# Altium schematic symbol library Connectors_Misc.SchLib: 48 symbols (part 2 of 2)

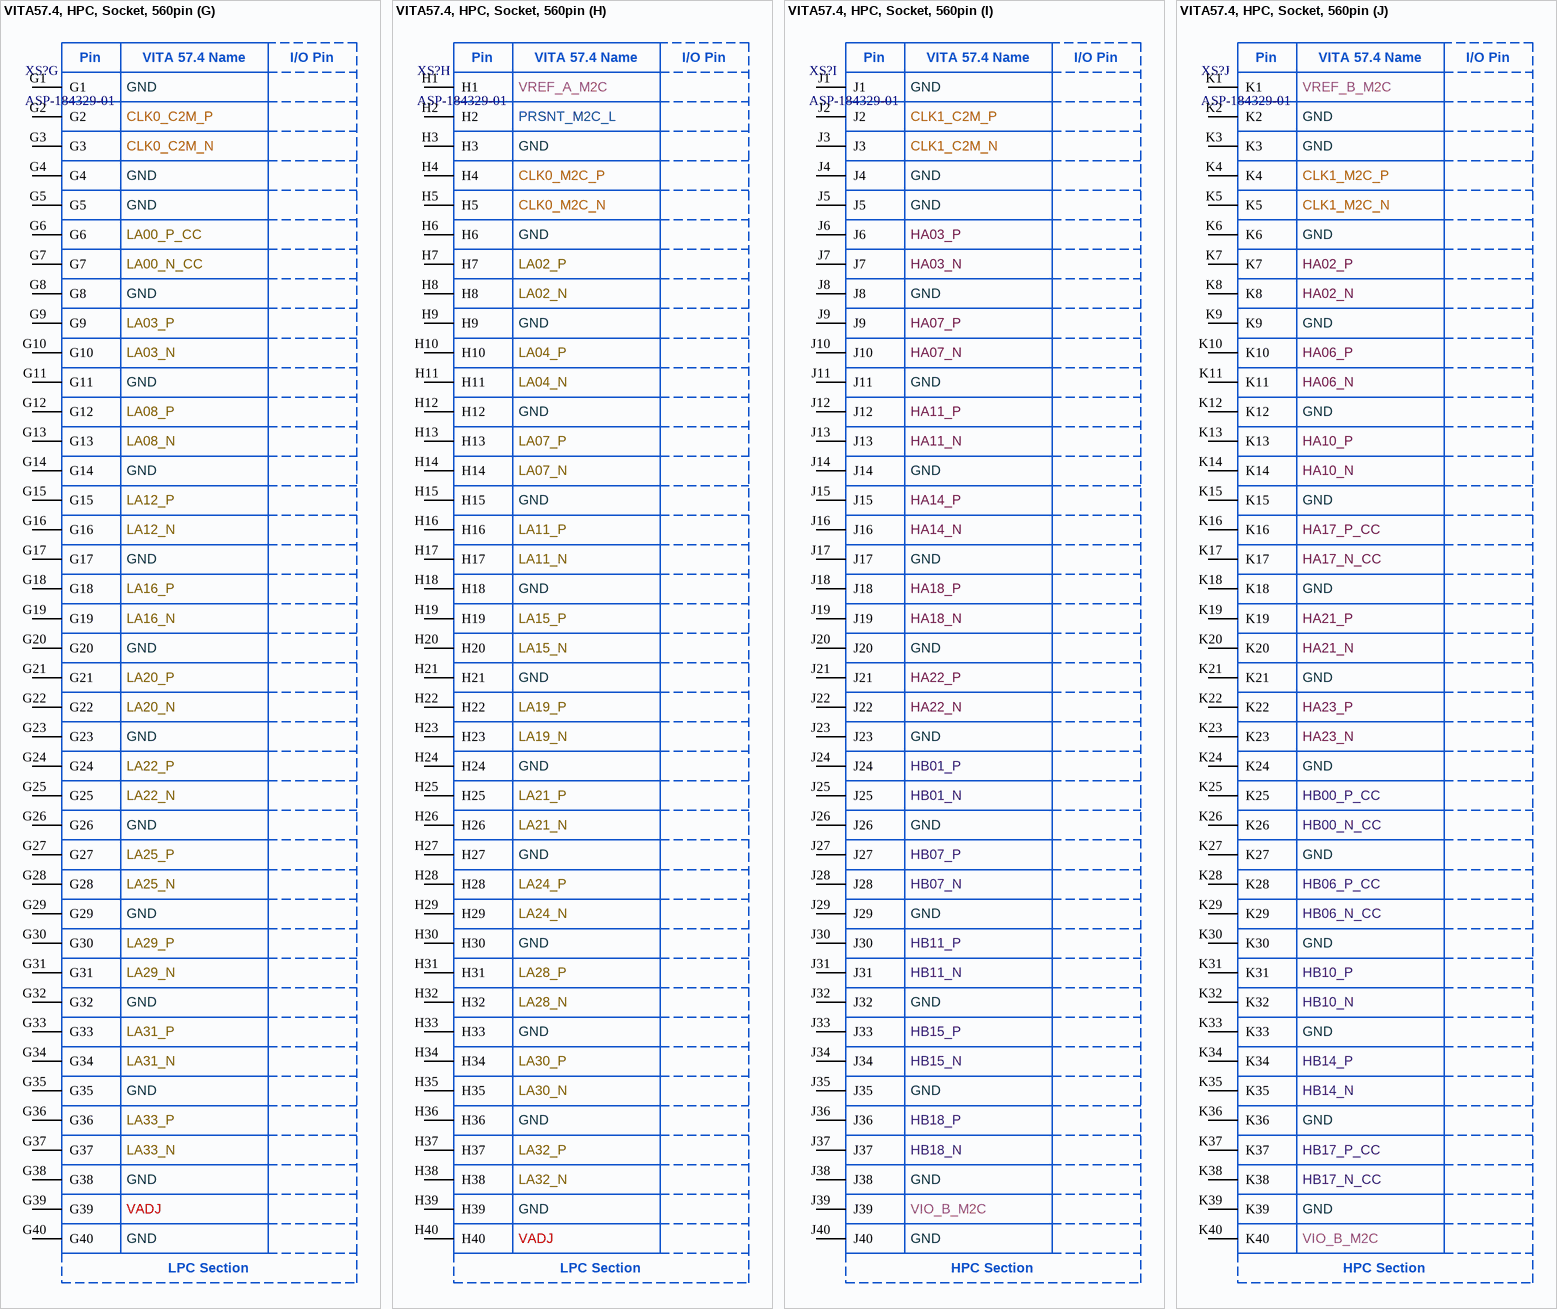
[diagram p23: symbol VITA57.4, HPC, Socket, 560pin]

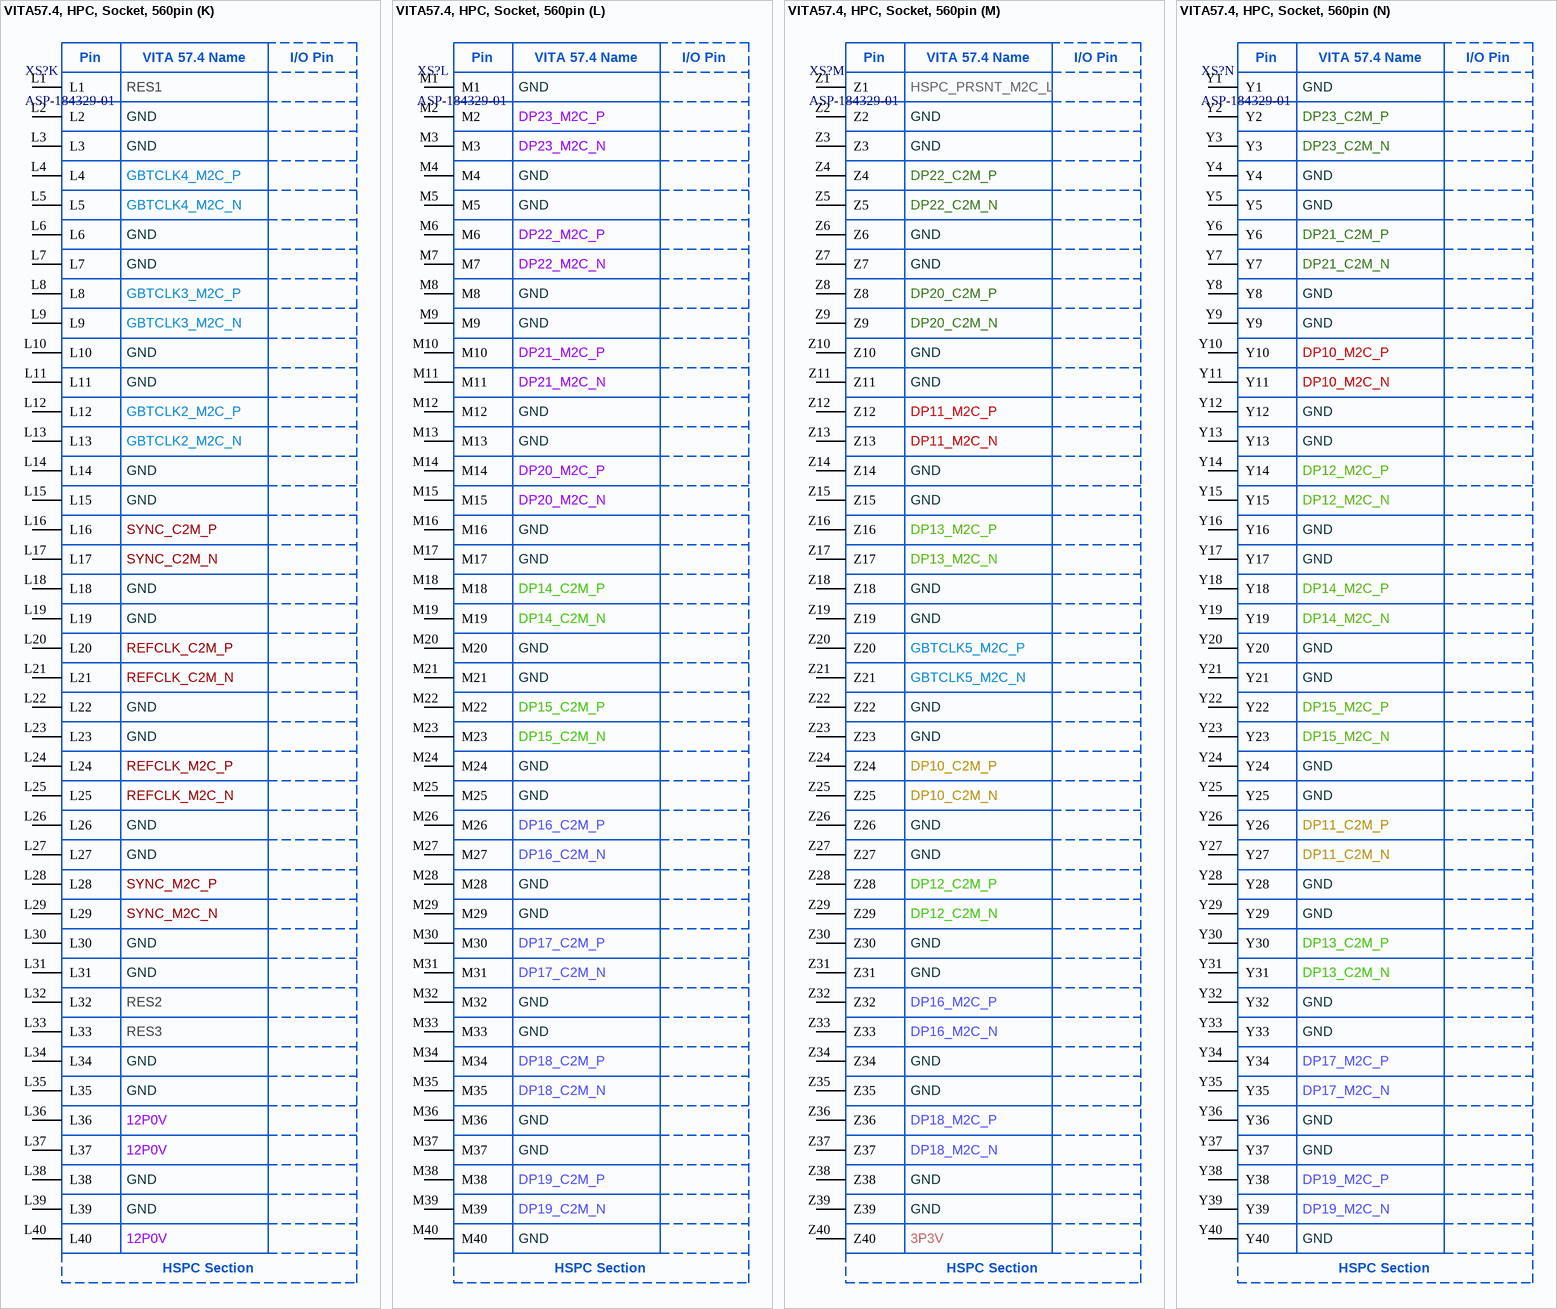
[diagram p24: symbol VITA57.4, HPC, Socket, 560pin]

## VITA57.4, HPC, Socket, 560pin
designator XS?, comment ASP-184329-01
560 Position Connector Array, Female Sockets Surface Mount Gold; Manufacturer: Samtec; ItemSubType: VITA57; PartNumber: ASP-184329-01; ItemType: Connector; Mounting: SMD
footprint ASP-184329-01 (VITA57.4 FMC Connector, HPC, 560 pin)
part A pins: A1, A2, A3, A4, A5, A6, A7, A8, A9, A10, A11, A12, A13, A14, A15, A16, A17, A18, A19, A20, A21, A22, A23, A24, A25, A26, A27, A28, A29, A30, A31, A32, A33, A34, A35, A36, A37, A38, A39, A40
part B pins: B1, B2, B3, B4, B5, B6, B7, B8, B9, B10, B11, B12, B13, B14, B15, B16, B17, B18, B19, B20, B21, B22, B23, B24, B25, B26, B27, B28, B29, B30, B31, B32, B33, B34, B35, B36, B37, B38, B39, B40
part C pins: C1, C2, C3, C4, C5, C6, C7, C8, C9, C10, C11, C12, C13, C14, C15, C16, C17, C18, C19, C20, C21, C22, C23, C24, C25, C26, C27, C28, C29, C30, C31, C32, C33, C34, C35, C36, C37, C38, C39, C40
part D pins: D1, D2, D3, D4, D5, D6, D7, D8, D9, D10, D11, D12, D13, D14, D15, D16, D17, D18, D19, D20, D21, D22, D23, D24, D25, D26, D27, D28, D29, D30, D31, D32, D33, D34, D35, D36, D37, D38, D39, D40
part E pins: E1, E2, E3, E4, E5, E6, E7, E8, E9, E10, E11, E12, E13, E14, E15, E16, E17, E18, E19, E20, E21, E22, E23, E24, E25, E26, E27, E28, E29, E30, E31, E32, E33, E34, E35, E36, E37, E38, E39, E40
part F pins: F1, F2, F3, F4, F5, F6, F7, F8, F9, F10, F11, F12, F13, F14, F15, F16, F17, F18, F19, F20, F21, F22, F23, F24, F25, F26, F27, F28, F29, F30, F31, F32, F33, F34, F35, F36, F37, F38, F39, F40
part G pins: G1, G2, G3, G4, G5, G6, G7, G8, G9, G10, G11, G12, G13, G14, G15, G16, G17, G18, G19, G20, G21, G22, G23, G24, G25, G26, G27, G28, G29, G30, G31, G32, G33, G34, G35, G36, G37, G38, G39, G40
part H pins: H1, H2, H3, H4, H5, H6, H7, H8, H9, H10, H11, H12, H13, H14, H15, H16, H17, H18, H19, H20, H21, H22, H23, H24, H25, H26, H27, H28, H29, H30, H31, H32, H33, H34, H35, H36, H37, H38, H39, H40
part I pins: J1, J2, J3, J4, J5, J6, J7, J8, J9, J10, J11, J12, J13, J14, J15, J16, J17, J18, J19, J20, J21, J22, J23, J24, J25, J26, J27, J28, J29, J30, J31, J32, J33, J34, J35, J36, J37, J38, J39, J40
part J pins: K1, K2, K3, K4, K5, K6, K7, K8, K9, K10, K11, K12, K13, K14, K15, K16, K17, K18, K19, K20, K21, K22, K23, K24, K25, K26, K27, K28, K29, K30, K31, K32, K33, K34, K35, K36, K37, K38, K39, K40
part K pins: L1, L2, L3, L4, L5, L6, L7, L8, L9, L10, L11, L12, L13, L14, L15, L16, L17, L18, L19, L20, L21, L22, L23, L24, L25, L26, L27, L28, L29, L30, L31, L32, L33, L34, L35, L36, L37, L38, L39, L40
part L pins: M1, M2, M3, M4, M5, M6, M7, M8, M9, M10, M11, M12, M13, M14, M15, M16, M17, M18, M19, M20, M21, M22, M23, M24, M25, M26, M27, M28, M29, M30, M31, M32, M33, M34, M35, M36, M37, M38, M39, M40
part M pins: Z1, Z2, Z3, Z4, Z5, Z6, Z7, Z8, Z9, Z10, Z11, Z12, Z13, Z14, Z15, Z16, Z17, Z18, Z19, Z20, Z21, Z22, Z23, Z24, Z25, Z26, Z27, Z28, Z29, Z30, Z31, Z32, Z33, Z34, Z35, Z36, Z37, Z38, Z39, Z40
part N pins: Y1, Y2, Y3, Y4, Y5, Y6, Y7, Y8, Y9, Y10, Y11, Y12, Y13, Y14, Y15, Y16, Y17, Y18, Y19, Y20, Y21, Y22, Y23, Y24, Y25, Y26, Y27, Y28, Y29, Y30, Y31, Y32, Y33, Y34, Y35, Y36, Y37, Y38, Y39, Y40
part A text: Pin; VITA 57.4 Name; I/O Pin; GND; DP1_M2C_P; DP1_M2C_N; DP2_M2C_P; DP2_M2C_N; DP3_M2C_P; DP3_M2C_N; DP4_M2C_P; DP4_M2C_N; DP5_M2C_P; DP5_M2C_N; DP1_C2M_P; DP1_C2M_N; DP2_C2M_P; DP2_C2M_N; DP3_C2M_P; DP3_C2M_N; DP4_C2M_P; DP4_C2M_N; DP5_C2M_P; DP5_C2M_N; HPC Section
part B text: Pin; VITA 57.4 Name; I/O Pin; CLK_DIR; GND; DP9_M2C_P; DP9_M2C_N; DP8_M2C_P; DP8_M2C_N; DP7_M2C_P; DP7_M2C_N; DP6_M2C_P; DP6_M2C_N; GBTCLK1_M2C_P; GBTCLK1_M2C_N; DP9_C2M_P; DP9_C2M_N; DP8_C2M_P; DP8_C2M_N; DP7_C2M_P; DP7_C2M_N; DP6_C2M_P; DP6_C2M_N; RES0; HPC Section
part C text: Pin; VITA 57.4 Name; I/O Pin; GND; DP0_C2M_P; DP0_C2M_N; DP0_M2C_P; DP0_M2C_N; LA06_P; LA06_N; LA10_P; LA10_N; LA14_P; LA14_N; LA18_P_CC; LA18_N_CC; LA27_P; LA27_N; SCL; SDA; GA0; 12P0V; 3P3V; LPC Section
part D text: Pin; VITA 57.4 Name; I/O Pin; PG_C2M; GND; GBTCLK0_M2C_P; GBTCLK0_M2C_N; LA01_P_CC; LA01_N_CC; LA05_P; LA05_N; LA09_P; LA09_N; LA13_P; LA13_N; LA17_P_CC; LA17_N_CC; LA23_P; LA23_N; LA26_P; LA26_N; TCK; TDI; TDO; 3P3VAUX; TMS; TRST_L; GA1; 3P3V; LPC Section
part E text: Pin; VITA 57.4 Name; I/O Pin; GND; HA01_P_CC; HA01_N_CC; HA05_P; HA05_N; HA09_P; HA09_N; HA13_P; HA13_N; HA16_P; HA16_N; HA20_P; HA20_N; HB03_P; HB03_N; HB05_P; HB05_N; HB09_P; HB09_N; HB13_P; HB13_N; HB19_P; HB19_N; HB21_P; HB21_N; VADJ; HPC Section
part F text: Pin; VITA 57.4 Name; I/O Pin; PG_M2C; GND; HA00_P_CC; HA00_N_CC; HA04_P; HA04_N; HA08_P; HA08_N; HA12_P; HA12_N; HA15_P; HA15_N; HA19_P; HA19_N; HB02_P; HB02_N; HB04_P; HB04_N; HB08_P; HB08_N; HB12_P; HB12_N; HB16_P; HB16_N; HB20_P; HB20_N; VADJ; HPC Section
part G text: Pin; VITA 57.4 Name; I/O Pin; GND; CLK0_C2M_P; CLK0_C2M_N; LA00_P_CC; LA00_N_CC; LA03_P; LA03_N; LA08_P; LA08_N; LA12_P; LA12_N; LA16_P; LA16_N; LA20_P; LA20_N; LA22_P; LA22_N; LA25_P; LA25_N; LA29_P; LA29_N; LA31_P; LA31_N; LA33_P; LA33_N; VADJ; LPC Section
part H text: Pin; VITA 57.4 Name; I/O Pin; VREF_A_M2C; PRSNT_M2C_L; GND; CLK0_M2C_P; CLK0_M2C_N; LA02_P; LA02_N; LA04_P; LA04_N; LA07_P; LA07_N; LA11_P; LA11_N; LA15_P; LA15_N; LA19_P; LA19_N; LA21_P; LA21_N; LA24_P; LA24_N; LA28_P; LA28_N; LA30_P; LA30_N; LA32_P; LA32_N; VADJ; LPC Section
part I text: Pin; VITA 57.4 Name; I/O Pin; GND; CLK1_C2M_P; CLK1_C2M_N; HA03_P; HA03_N; HA07_P; HA07_N; HA11_P; HA11_N; HA14_P; HA14_N; HA18_P; HA18_N; HA22_P; HA22_N; HB01_P; HB01_N; HB07_P; HB07_N; HB11_P; HB11_N; HB15_P; HB15_N; HB18_P; HB18_N; VIO_B_M2C; HPC Section
part J text: Pin; VITA 57.4 Name; I/O Pin; VREF_B_M2C; GND; CLK1_M2C_P; CLK1_M2C_N; HA02_P; HA02_N; HA06_P; HA06_N; HA10_P; HA10_N; HA17_P_CC; HA17_N_CC; HA21_P; HA21_N; HA23_P; HA23_N; HB00_P_CC; HB00_N_CC; HB06_P_CC; HB06_N_CC; HB10_P; HB10_N; HB14_P; HB14_N; HB17_P_CC; HB17_N_CC; VIO_B_M2C; HPC Section
part K text: Pin; VITA 57.4 Name; I/O Pin; RES1; GND; GBTCLK4_M2C_P; GBTCLK4_M2C_N; GBTCLK3_M2C_P; GBTCLK3_M2C_N; GBTCLK2_M2C_P; GBTCLK2_M2C_N; SYNC_C2M_P; SYNC_C2M_N; REFCLK_C2M_P; REFCLK_C2M_N; REFCLK_M2C_P; REFCLK_M2C_N; SYNC_M2C_P; SYNC_M2C_N; RES2; RES3; 12P0V; HSPC Section
part L text: Pin; VITA 57.4 Name; I/O Pin; GND; DP23_M2C_P; DP23_M2C_N; DP22_M2C_P; DP22_M2C_N; DP21_M2C_P; DP21_M2C_N; DP20_M2C_P; DP20_M2C_N; DP14_C2M_P; DP14_C2M_N; DP15_C2M_P; DP15_C2M_N; DP16_C2M_P; DP16_C2M_N; DP17_C2M_P; DP17_C2M_N; DP18_C2M_P; DP18_C2M_N; DP19_C2M_P; DP19_C2M_N; HSPC Section
part M text: Pin; VITA 57.4 Name; I/O Pin; HSPC_PRSNT_M2C_L; GND; DP22_C2M_P; DP22_C2M_N; DP20_C2M_P; DP20_C2M_N; DP11_M2C_P; DP11_M2C_N; DP13_M2C_P; DP13_M2C_N; GBTCLK5_M2C_P; GBTCLK5_M2C_N; DP10_C2M_P; DP10_C2M_N; DP12_C2M_P; DP12_C2M_N; DP16_M2C_P; DP16_M2C_N; DP18_M2C_P; DP18_M2C_N; 3P3V; HSPC Section
part N text: Pin; VITA 57.4 Name; I/O Pin; GND; DP23_C2M_P; DP23_C2M_N; DP21_C2M_P; DP21_C2M_N; DP10_M2C_P; DP10_M2C_N; DP12_M2C_P; DP12_M2C_N; DP14_M2C_P; DP14_M2C_N; DP15_M2C_P; DP15_M2C_N; DP11_C2M_P; DP11_C2M_N; DP13_C2M_P; DP13_C2M_N; DP17_M2C_P; DP17_M2C_N; DP19_M2C_P; DP19_M2C_N; HSPC Section